# Altium footprint library solder_jumper_3pos.PcbLib: 1 footprints
Each footprint in its own frame and in the unit in brackets; x right, y up, seen from the top. Pads: shape width x height; smd on the part's side, far side on the other; paste and mask are expansions set on the pad; w line width, h text height; cw(c..) or ccw(c..) is an arc to the next point about the centre after c.
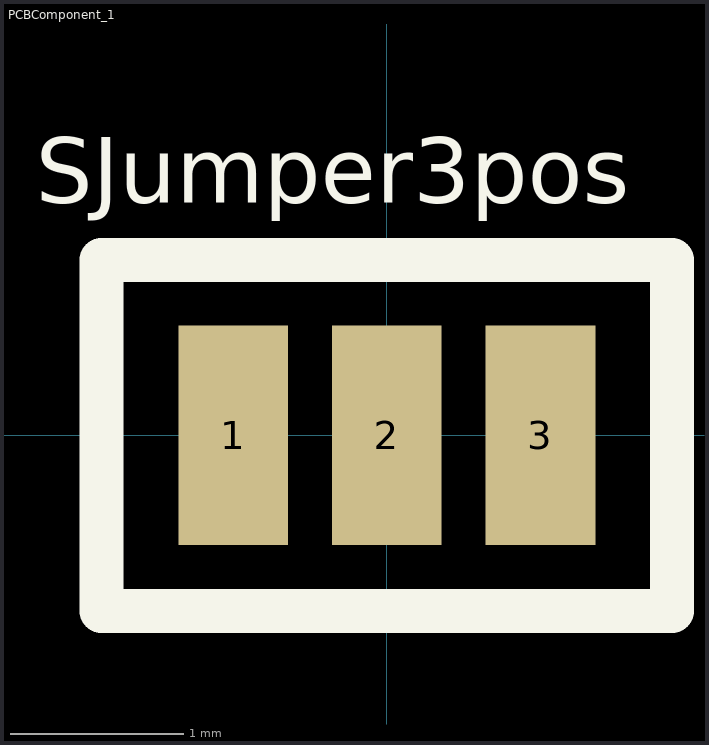
[diagram p0: the footprint, top view; thin cyan lines are the x and y axes]

## PCBComponent_1 [mil]
pads (3):
  rect 25x50 smd: 1(-35,0) 2(0,0) 3(35,0)
Top Overlay:
  lines w10: -65,-40 65,-40 65,40 -35,40 -65,40 -65,10 -65,-40
  text "SJumper3pos" at -79.97,53 h15